# Altium footprint library AONR21321.PcbLib: 1 footprints
Each footprint in its own frame and in the unit in brackets; x right, y up, seen from the top. Pads: shape width x height; smd on the part's side, far side on the other; paste and mask are expansions set on the pad; w line width, h text height; cw(c..) or ccw(c..) is an arc to the next point about the centre after c.
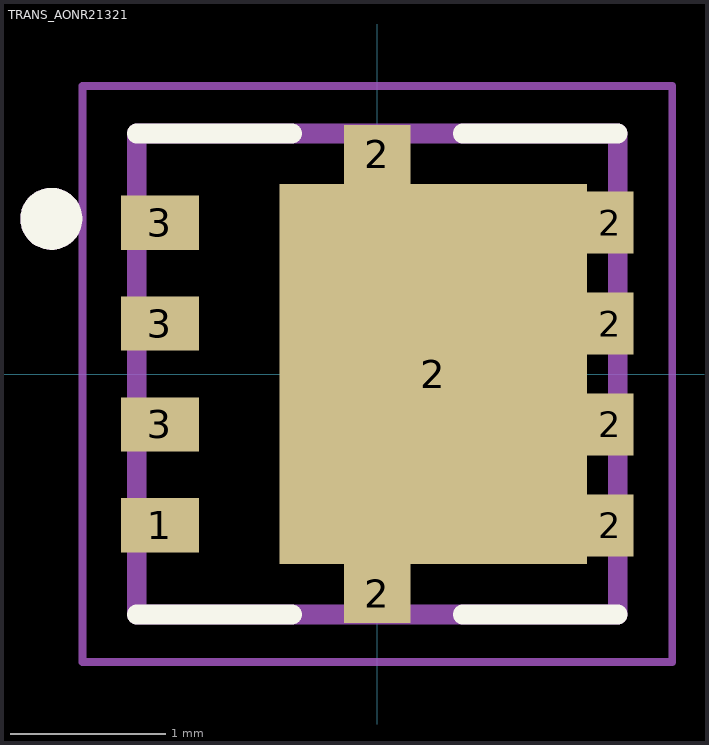
[diagram p0: the footprint, top view; thin cyan lines are the x and y axes]

## TRANS_AONR21321 [mm]
pads (11):
  rect 0.5x0.35 smd: 1(-1.4,-0.975) 3(-1.4,-0.325) 3(-1.4,0.325) 3(-1.4,0.975)
  rect 0.43x0.38 smd: 2(0,-1.415) 2(0,1.415)
  rect 1.98x2.45 smd paste-2: 2(0.36,0)
  rect 0.3x0.4 smd: 2(1.5,-0.975) 2(1.5,-0.325) 2(1.5,0.325) 2(1.5,0.975)
Top Overlay:
  circle w0.2: c-2.1,1 r0.1
  lines w0.127: -1.55,-1.55 -0.55,-1.55 ; -1.55,1.55 -0.55,1.55 ; 0.55,-1.55 1.55,-1.55 ; 0.55,1.55 1.55,1.55
Top Paste:
  region: 1.182,-0.664 -0.462,-0.664 -0.462,0.664 1.182,0.664
Mechanical 13:
  circle w0.2: c-2.1,1 r0.1
  lines w0.127: -1.55,-1.55 -1.55,1.55 1.55,1.55 1.55,-1.55 -1.55,-1.55
Mechanical 15:
  lines w0.05: -1.9,-1.855 -1.9,1.855 1.9,1.855 1.9,-1.855 -1.9,-1.855